# Altium footprint library Texas Instruments Footprints.PcbLib: 429 footprints (part 20 of 32)
Each footprint in its own frame and in the unit in brackets; x right, y up, seen from the top. Pads: shape width x height; smd on the part's side, far side on the other; paste and mask are expansions set on the pad; w line width, h text height; cw(c..) or ccw(c..) is an arc to the next point about the centre after c.
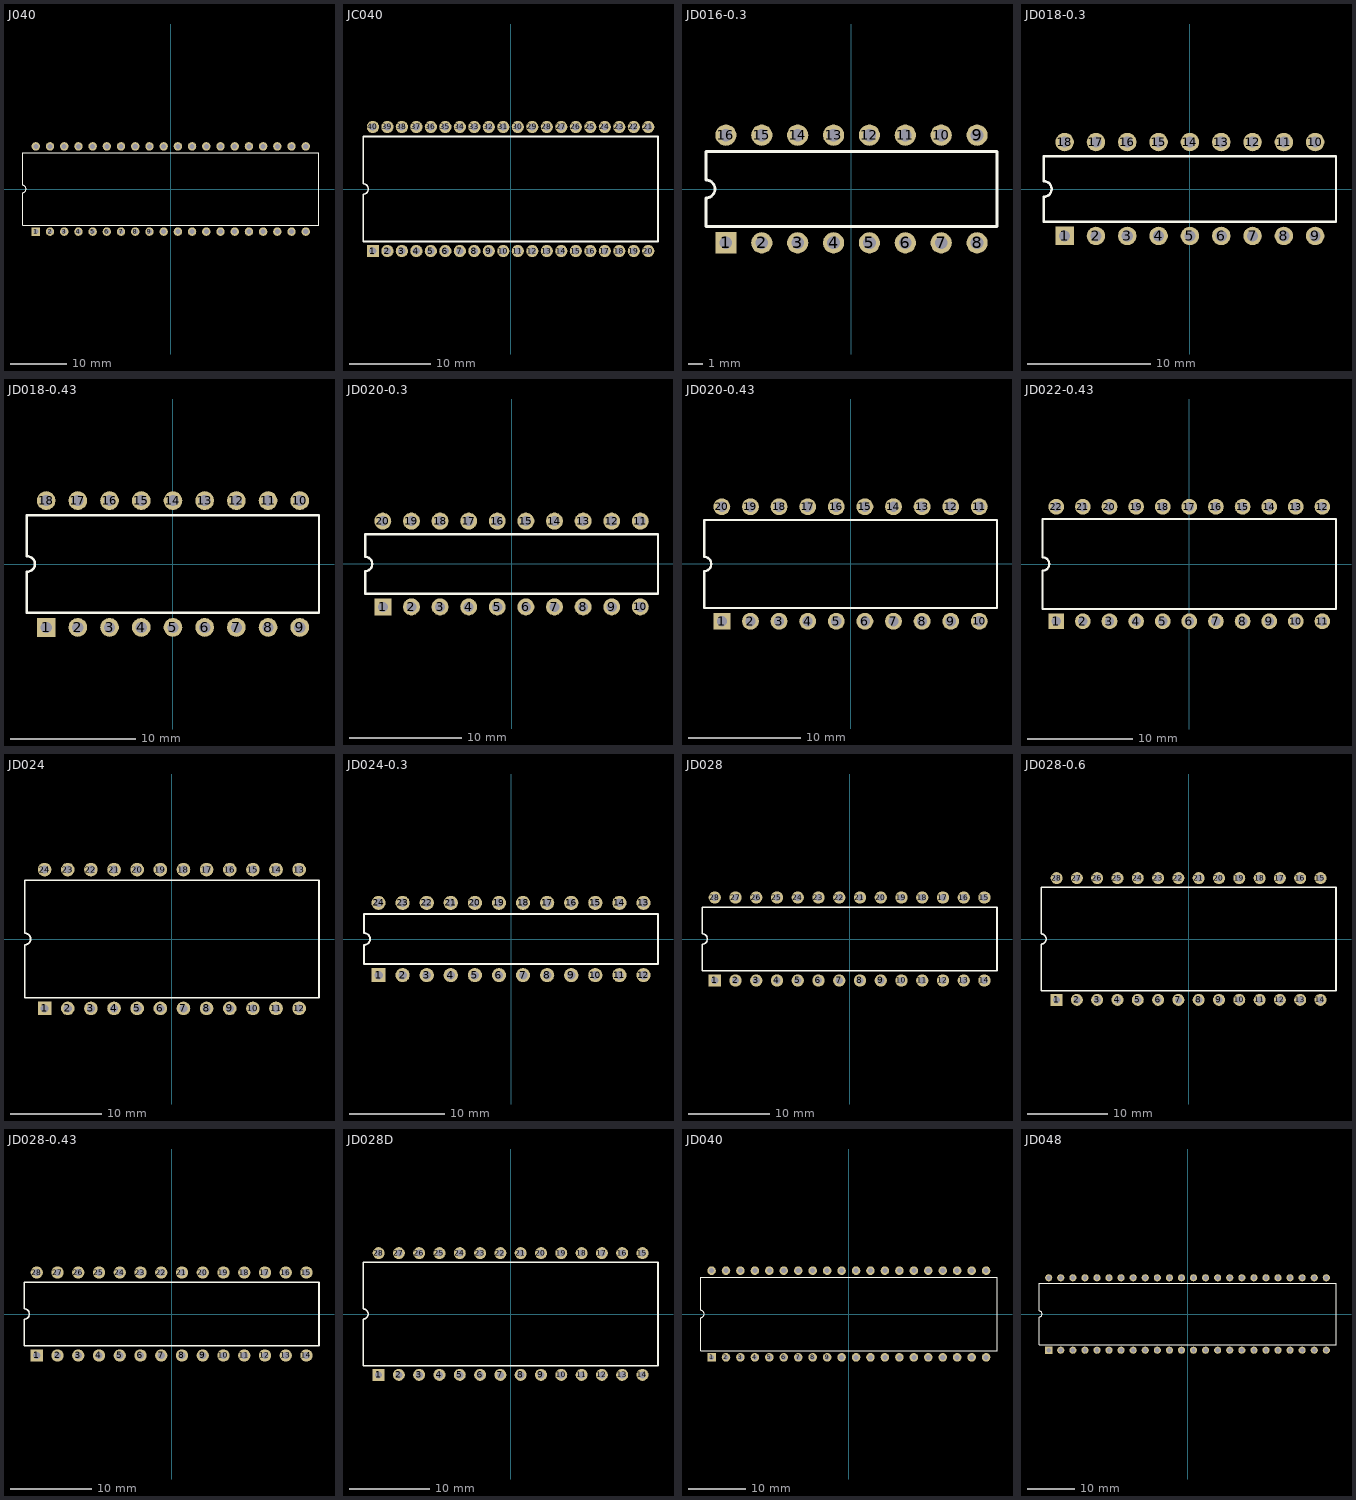
[diagram p19: the footprints below, top view; thin cyan lines are the x and y axes]

## J040 [mm] "DIP; 40 Leads; Row Spacing 15.24 mm; Pitch 2.54 mm"
height 5.16
pads (40):
  rect 1.5x1.5 hole 0.9: 1(-24.13,-7.62)
  round 1.5 hole 0.9: 2(-21.59,-7.62) 3(-19.05,-7.62) 4(-16.51,-7.62) 5(-13.97,-7.62) 6(-11.43,-7.62) 7(-8.89,-7.62) 8(-6.35,-7.62) 9(-3.81,-7.62) 10(-1.27,-7.62) 11(1.27,-7.62) 12(3.81,-7.62) 13(6.35,-7.62) 14(8.89,-7.62) 15(11.43,-7.62) 16(13.97,-7.62) 17(16.51,-7.62) 18(19.05,-7.62) 19(21.59,-7.62) 20(24.13,-7.62) 21(24.13,7.62) 22(21.59,7.62) 23(19.05,7.62) 24(16.51,7.62) 25(13.97,7.62) 26(11.43,7.62) 27(8.89,7.62) 28(6.35,7.62) 29(3.81,7.62) 30(1.27,7.62) 31(-1.27,7.62) 32(-3.81,7.62) 33(-6.35,7.62) 34(-8.89,7.62) 35(-11.43,7.62) 36(-13.97,7.62) 37(-16.51,7.62) 38(-19.05,7.62) 39(-21.59,7.62) 40(-24.13,7.62)
Top Overlay:
  lines w0.2: -26.5,-6.45 26.5,-6.45 26.5,6.45 -26.5,6.45 -26.5,0.635 cw(c-26.5,0) -26.5,-0.635 -26.5,-6.45

## JC040 [mm] "DIP; 40 Leads; Row Spacing 15.24 mm; Pitch 1.78 mm"
height 3.67
pads (40):
  rect 1.5x1.5 hole 0.9: 1(-16.91,-7.62)
  round 1.5 hole 0.9: 2(-15.13,-7.62) 3(-13.35,-7.62) 4(-11.57,-7.62) 5(-9.79,-7.62) 6(-8.01,-7.62) 7(-6.23,-7.62) 8(-4.45,-7.62) 9(-2.67,-7.62) 10(-0.89,-7.62) 11(0.89,-7.62) 12(2.67,-7.62) 13(4.45,-7.62) 14(6.23,-7.62) 15(8.01,-7.62) 16(9.79,-7.62) 17(11.57,-7.62) 18(13.35,-7.62) 19(15.13,-7.62) 20(16.91,-7.62) 21(16.91,7.62) 22(15.13,7.62) 23(13.35,7.62) 24(11.57,7.62) 25(9.79,7.62) 26(8.01,7.62) 27(6.23,7.62) 28(4.45,7.62) 29(2.67,7.62) 30(0.89,7.62) 31(-0.89,7.62) 32(-2.67,7.62) 33(-4.45,7.62) 34(-6.23,7.62) 35(-8.01,7.62) 36(-9.79,7.62) 37(-11.57,7.62) 38(-13.35,7.62) 39(-15.13,7.62) 40(-16.91,7.62)
Top Overlay:
  lines w0.2: -18.1,-6.45 -18.1,-0.635 ccw(c-18.1,0) -18.1,0.635 -18.1,6.45 18.1,6.45 18.1,-6.45 -18.1,-6.45

## JD016-0.3 [mm] "DIP; 16 Leads; Row Spacing 7.62 mm; Pitch 2.54 mm"
height 4.45
pads (16):
  rect 1.5x1.5 hole 0.9: 1(-8.89,-3.81)
  round 1.5 hole 0.9: 2(-6.35,-3.81) 3(-3.81,-3.81) 4(-1.27,-3.81) 5(1.27,-3.81) 6(3.81,-3.81) 7(6.35,-3.81) 8(8.89,-3.81) 9(8.89,3.81) 10(6.35,3.81) 11(3.81,3.81) 12(1.27,3.81) 13(-1.27,3.81) 14(-3.81,3.81) 15(-6.35,3.81) 16(-8.89,3.81)
Top Overlay:
  lines w0.2: -10.3,-2.65 -10.3,-0.635 ccw(c-10.3,0) -10.3,0.635 -10.3,2.65 10.3,2.65 10.3,-2.65 -10.3,-2.65

## JD018-0.3 [mm] "DIP; 18 Leads; Row Spacing 7.62 mm; Pitch 2.54 mm"
height 4.45
pads (18):
  rect 1.5x1.5 hole 0.9: 1(-10.16,-3.81)
  round 1.5 hole 0.9: 2(-7.62,-3.81) 3(-5.08,-3.81) 4(-2.54,-3.81) 5(0,-3.81) 6(2.54,-3.81) 7(5.08,-3.81) 8(7.62,-3.81) 9(10.16,-3.81) 10(10.16,3.81) 11(7.62,3.81) 12(5.08,3.81) 13(2.54,3.81) 14(0,3.81) 15(-2.54,3.81) 16(-5.08,3.81) 17(-7.62,3.81) 18(-10.16,3.81)
Top Overlay:
  lines w0.2: -11.85,-2.65 11.85,-2.65 11.85,2.65 -11.85,2.65 -11.85,0.635 cw(c-11.85,0) -11.85,-0.635 -11.85,-2.65

## JD018-0.43 [mm] "DIP; 18 Leads; Row Spacing 10.16 mm; Pitch 2.54 mm"
height 3.56
pads (18):
  rect 1.5x1.5 hole 0.9: 1(-10.16,-5.08)
  round 1.5 hole 0.9: 2(-7.62,-5.08) 3(-5.08,-5.08) 4(-2.54,-5.08) 5(0,-5.08) 6(2.54,-5.08) 7(5.08,-5.08) 8(7.62,-5.08) 9(10.16,-5.08) 10(10.16,5.08) 11(7.62,5.08) 12(5.08,5.08) 13(2.54,5.08) 14(0,5.08) 15(-2.54,5.08) 16(-5.08,5.08) 17(-7.62,5.08) 18(-10.16,5.08)
Top Overlay:
  lines w0.2: -11.7,-3.9 -11.7,-0.635 ccw(c-11.7,0) -11.7,0.635 -11.7,3.9 11.7,3.9 11.7,-3.9 -11.7,-3.9

## JD020-0.3 [mm] "DIP; 20 Leads; Row Spacing 7.62 mm; Pitch 2.54 mm"
height 4.45
pads (20):
  rect 1.5x1.5 hole 0.9: 1(-11.43,-3.81)
  round 1.5 hole 0.9: 2(-8.89,-3.81) 3(-6.35,-3.81) 4(-3.81,-3.81) 5(-1.27,-3.81) 6(1.27,-3.81) 7(3.81,-3.81) 8(6.35,-3.81) 9(8.89,-3.81) 10(11.43,-3.81) 11(11.43,3.81) 12(8.89,3.81) 13(6.35,3.81) 14(3.81,3.81) 15(1.27,3.81) 16(-1.27,3.81) 17(-3.81,3.81) 18(-6.35,3.81) 19(-8.89,3.81) 20(-11.43,3.81)
Top Overlay:
  lines w0.2: -13,-2.65 -13,-0.635 ccw(c-13,0) -13,0.635 -13,2.65 13,2.65 13,-2.65 -13,-2.65

## JD020-0.43 [mm] "DIP; 20 Leads; Row Spacing 10.16 mm; Pitch 2.54 mm"
height 3.56
pads (20):
  rect 1.5x1.5 hole 0.9: 1(-11.43,-5.08)
  round 1.5 hole 0.9: 2(-8.89,-5.08) 3(-6.35,-5.08) 4(-3.81,-5.08) 5(-1.27,-5.08) 6(1.27,-5.08) 7(3.81,-5.08) 8(6.35,-5.08) 9(8.89,-5.08) 10(11.43,-5.08) 11(11.43,5.08) 12(8.89,5.08) 13(6.35,5.08) 14(3.81,5.08) 15(1.27,5.08) 16(-1.27,5.08) 17(-3.81,5.08) 18(-6.35,5.08) 19(-8.89,5.08) 20(-11.43,5.08)
Top Overlay:
  lines w0.2: -13,-3.9 13,-3.9 13,3.9 -13,3.9 -13,0.635 cw(c-13,0) -13,-0.635 -13,-3.9

## JD022-0.43 [mm] "DIP; 22 Leads; Row Spacing 10.92 mm; Pitch 2.54 mm"
height 3.56
pads (22):
  rect 1.5x1.5 hole 0.9: 1(-12.7,-5.46)
  round 1.5 hole 0.9: 2(-10.16,-5.46) 3(-7.62,-5.46) 4(-5.08,-5.46) 5(-2.54,-5.46) 6(0,-5.46) 7(2.54,-5.46) 8(5.08,-5.46) 9(7.62,-5.46) 10(10.16,-5.46) 11(12.7,-5.46) 12(12.7,5.46) 13(10.16,5.46) 14(7.62,5.46) 15(5.08,5.46) 16(2.54,5.46) 17(0,5.46) 18(-2.54,5.46) 19(-5.08,5.46) 20(-7.62,5.46) 21(-10.16,5.46) 22(-12.7,5.46)
Top Overlay:
  lines w0.2: -14,-4.3 14,-4.3 14,4.3 -14,4.3 -14,0.635 cw(c-14,0) -14,-0.635 -14,-4.3

## JD024 [mm] "DIP; 24 Leads; Row Spacing 15.24 mm; Pitch 2.54 mm"
height 4.45
pads (24):
  rect 1.5x1.5 hole 0.9: 1(-13.97,-7.62)
  round 1.5 hole 0.9: 2(-11.43,-7.62) 3(-8.89,-7.62) 4(-6.35,-7.62) 5(-3.81,-7.62) 6(-1.27,-7.62) 7(1.27,-7.62) 8(3.81,-7.62) 9(6.35,-7.62) 10(8.89,-7.62) 11(11.43,-7.62) 12(13.97,-7.62) 13(13.97,7.62) 14(11.43,7.62) 15(8.89,7.62) 16(6.35,7.62) 17(3.81,7.62) 18(1.27,7.62) 19(-1.27,7.62) 20(-3.81,7.62) 21(-6.35,7.62) 22(-8.89,7.62) 23(-11.43,7.62) 24(-13.97,7.62)
Top Overlay:
  lines w0.2: -16.15,-6.45 -16.15,-0.635 ccw(c-16.15,0) -16.15,0.635 -16.15,6.45 16.15,6.45 16.15,-6.45 -16.15,-6.45

## JD024-0.3 [mm] "DIP; 24 Leads; Row Spacing 7.62 mm; Pitch 2.54 mm"
height 4.45
pads (24):
  rect 1.5x1.5 hole 0.9: 1(-13.97,-3.81)
  round 1.5 hole 0.9: 2(-11.43,-3.81) 3(-8.89,-3.81) 4(-6.35,-3.81) 5(-3.81,-3.81) 6(-1.27,-3.81) 7(1.27,-3.81) 8(3.81,-3.81) 9(6.35,-3.81) 10(8.89,-3.81) 11(11.43,-3.81) 12(13.97,-3.81) 13(13.97,3.81) 14(11.43,3.81) 15(8.89,3.81) 16(6.35,3.81) 17(3.81,3.81) 18(1.27,3.81) 19(-1.27,3.81) 20(-3.81,3.81) 21(-6.35,3.81) 22(-8.89,3.81) 23(-11.43,3.81) 24(-13.97,3.81)
Top Overlay:
  lines w0.2: -15.5,-2.65 15.5,-2.65 15.5,2.65 -15.5,2.65 -15.5,0.635 cw(c-15.5,0) -15.5,-0.635 -15.5,-2.65

## JD028 [mm] "DIP; 28 Leads; Row Spacing 10.16 mm; Pitch 2.54 mm"
height 3.56
pads (28):
  rect 1.5x1.5 hole 0.9: 1(-16.51,-5.08)
  round 1.5 hole 0.9: 2(-13.97,-5.08) 3(-11.43,-5.08) 4(-8.89,-5.08) 5(-6.35,-5.08) 6(-3.81,-5.08) 7(-1.27,-5.08) 8(1.27,-5.08) 9(3.81,-5.08) 10(6.35,-5.08) 11(8.89,-5.08) 12(11.43,-5.08) 13(13.97,-5.08) 14(16.51,-5.08) 15(16.51,5.08) 16(13.97,5.08) 17(11.43,5.08) 18(8.89,5.08) 19(6.35,5.08) 20(3.81,5.08) 21(1.27,5.08) 22(-1.27,5.08) 23(-3.81,5.08) 24(-6.35,5.08) 25(-8.89,5.08) 26(-11.43,5.08) 27(-13.97,5.08) 28(-16.51,5.08)
Top Overlay:
  lines w0.2: -18.05,-3.9 -18.05,-0.635 ccw(c-18.05,0) -18.05,0.635 -18.05,3.9 18.05,3.9 18.05,-3.9 -18.05,-3.9

## JD028-0.6 [mm] "DIP; 28 Leads; Row Spacing 15.24 mm; Pitch 2.54 mm"
height 4.45
pads (28):
  rect 1.5x1.5 hole 0.9: 1(-16.51,-7.62)
  round 1.5 hole 0.9: 2(-13.97,-7.62) 3(-11.43,-7.62) 4(-8.89,-7.62) 5(-6.35,-7.62) 6(-3.81,-7.62) 7(-1.27,-7.62) 8(1.27,-7.62) 9(3.81,-7.62) 10(6.35,-7.62) 11(8.89,-7.62) 12(11.43,-7.62) 13(13.97,-7.62) 14(16.51,-7.62) 15(16.51,7.62) 16(13.97,7.62) 17(11.43,7.62) 18(8.89,7.62) 19(6.35,7.62) 20(3.81,7.62) 21(1.27,7.62) 22(-1.27,7.62) 23(-3.81,7.62) 24(-6.35,7.62) 25(-8.89,7.62) 26(-11.43,7.62) 27(-13.97,7.62) 28(-16.51,7.62)
Top Overlay:
  lines w0.2: -18.45,-6.45 -18.45,-0.635 ccw(c-18.45,0) -18.45,0.635 -18.45,6.45 18.45,6.45 18.45,-6.45 -18.45,-6.45

## JD028-0.43 [mm] "DIP; 28 Leads; Row Spacing 10.16 mm; Pitch 2.54 mm"
height 3.56
pads (28):
  rect 1.5x1.5 hole 0.9: 1(-16.51,-5.08)
  round 1.5 hole 0.9: 2(-13.97,-5.08) 3(-11.43,-5.08) 4(-8.89,-5.08) 5(-6.35,-5.08) 6(-3.81,-5.08) 7(-1.27,-5.08) 8(1.27,-5.08) 9(3.81,-5.08) 10(6.35,-5.08) 11(8.89,-5.08) 12(11.43,-5.08) 13(13.97,-5.08) 14(16.51,-5.08) 15(16.51,5.08) 16(13.97,5.08) 17(11.43,5.08) 18(8.89,5.08) 19(6.35,5.08) 20(3.81,5.08) 21(1.27,5.08) 22(-1.27,5.08) 23(-3.81,5.08) 24(-6.35,5.08) 25(-8.89,5.08) 26(-11.43,5.08) 27(-13.97,5.08) 28(-16.51,5.08)
Top Overlay:
  lines w0.2: -18.05,-3.9 -18.05,-0.635 ccw(c-18.05,0) -18.05,0.635 -18.05,3.9 18.05,3.9 18.05,-3.9 -18.05,-3.9

## JD028D [mm] "DIP; 28 Leads; Row Spacing 15.24 mm; Pitch 2.54 mm"
height 4.45
pads (28):
  rect 1.5x1.5 hole 0.9: 1(-16.51,-7.62)
  round 1.5 hole 0.9: 2(-13.97,-7.62) 3(-11.43,-7.62) 4(-8.89,-7.62) 5(-6.35,-7.62) 6(-3.81,-7.62) 7(-1.27,-7.62) 8(1.27,-7.62) 9(3.81,-7.62) 10(6.35,-7.62) 11(8.89,-7.62) 12(11.43,-7.62) 13(13.97,-7.62) 14(16.51,-7.62) 15(16.51,7.62) 16(13.97,7.62) 17(11.43,7.62) 18(8.89,7.62) 19(6.35,7.62) 20(3.81,7.62) 21(1.27,7.62) 22(-1.27,7.62) 23(-3.81,7.62) 24(-6.35,7.62) 25(-8.89,7.62) 26(-11.43,7.62) 27(-13.97,7.62) 28(-16.51,7.62)
Top Overlay:
  lines w0.2: -18.45,-6.45 -18.45,-0.635 ccw(c-18.45,0) -18.45,0.635 -18.45,6.45 18.45,6.45 18.45,-6.45 -18.45,-6.45

## JD040 [mm] "DIP; 40 Leads; Row Spacing 15.24 mm; Pitch 2.54 mm"
height 4.45
pads (40):
  rect 1.5x1.5 hole 0.9: 1(-24.13,-7.62)
  round 1.5 hole 0.9: 2(-21.59,-7.62) 3(-19.05,-7.62) 4(-16.51,-7.62) 5(-13.97,-7.62) 6(-11.43,-7.62) 7(-8.89,-7.62) 8(-6.35,-7.62) 9(-3.81,-7.62) 10(-1.27,-7.62) 11(1.27,-7.62) 12(3.81,-7.62) 13(6.35,-7.62) 14(8.89,-7.62) 15(11.43,-7.62) 16(13.97,-7.62) 17(16.51,-7.62) 18(19.05,-7.62) 19(21.59,-7.62) 20(24.13,-7.62) 21(24.13,7.62) 22(21.59,7.62) 23(19.05,7.62) 24(16.51,7.62) 25(13.97,7.62) 26(11.43,7.62) 27(8.89,7.62) 28(6.35,7.62) 29(3.81,7.62) 30(1.27,7.62) 31(-1.27,7.62) 32(-3.81,7.62) 33(-6.35,7.62) 34(-8.89,7.62) 35(-11.43,7.62) 36(-13.97,7.62) 37(-16.51,7.62) 38(-19.05,7.62) 39(-21.59,7.62) 40(-24.13,7.62)
Top Overlay:
  lines w0.2: -26.05,-6.45 -26.05,-0.635 ccw(c-26.05,0) -26.05,0.635 -26.05,6.45 26.05,6.45 26.05,-6.45 -26.05,-6.45

## JD048 [mm] "DIP; 48 Leads; Row Spacing 15.24 mm; Pitch 2.54 mm"
height 4.45
pads (48):
  rect 1.5x1.5 hole 0.9: 1(-29.21,-7.62)
  round 1.5 hole 0.9: 2(-26.67,-7.62) 3(-24.13,-7.62) 4(-21.59,-7.62) 5(-19.05,-7.62) 6(-16.51,-7.62) 7(-13.97,-7.62) 8(-11.43,-7.62) 9(-8.89,-7.62) 10(-6.35,-7.62) 11(-3.81,-7.62) 12(-1.27,-7.62) 13(1.27,-7.62) 14(3.81,-7.62) 15(6.35,-7.62) 16(8.89,-7.62) 17(11.43,-7.62) 18(13.97,-7.62) 19(16.51,-7.62) 20(19.05,-7.62) 21(21.59,-7.62) 22(24.13,-7.62) 23(26.67,-7.62) 24(29.21,-7.62) 25(29.21,7.62) 26(26.67,7.62) 27(24.13,7.62) 28(21.59,7.62) 29(19.05,7.62) 30(16.51,7.62) 31(13.97,7.62) 32(11.43,7.62) 33(8.89,7.62) 34(6.35,7.62) 35(3.81,7.62) 36(1.27,7.62) 37(-1.27,7.62) 38(-3.81,7.62) 39(-6.35,7.62) 40(-8.89,7.62) 41(-11.43,7.62) 42(-13.97,7.62) 43(-16.51,7.62) 44(-19.05,7.62) 45(-21.59,7.62) 46(-24.13,7.62) 47(-26.67,7.62) 48(-29.21,7.62)
Top Overlay:
  lines w0.2: -31.25,-6.45 31.25,-6.45 31.25,6.45 -31.25,6.45 -31.25,0.635 cw(c-31.25,0) -31.25,-0.635 -31.25,-6.45